# Altium footprint library UVICHyrbidLibrary (1).PcbLib: 116 footprints (part 8 of 8)
Each footprint in its own frame and in the unit in brackets; x right, y up, seen from the top. Pads: shape width x height; smd on the part's side, far side on the other; paste and mask are expansions set on the pad; w line width, h text height; cw(c..) or ccw(c..) is an arc to the next point about the centre after c.
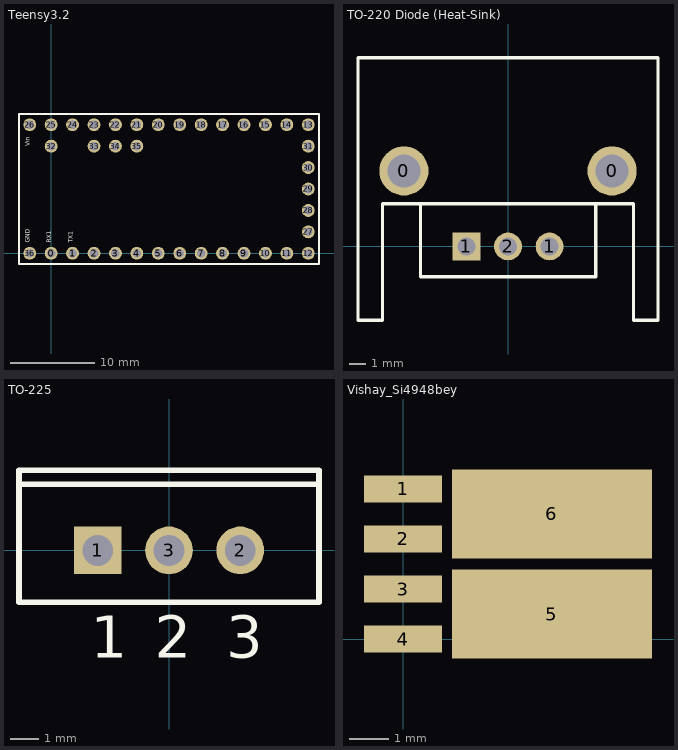
[diagram p7: the footprints below, top view; thin cyan lines are the x and y axes]

## Teensy3.2 [mil]
pads (37):
  round 60 hole 40: 0(0,0) 1(100,0) 2(200,0) 3(300,0) 4(400,0) 5(500,0) 6(600,0) 7(700,0) 8(800,0) 9(900,0) 10(1000,0) 11(1100,0) 12(1200,0) 13(1200,600) 14(1100,600) 15(1000,600) 16(900,600) 17(800,600) 18(700,600) 19(600,600) 20(500,600) 21(400,600) 22(300,600) 23(200,600) 24(100,600) 25(0,600) 26(-100,600) 27(1200,100) 28(1200,200) 29(1200,300) 30(1200,400) 31(1200,500) 32(0,500) 33(200,500) 34(300,500) 35(400,500) 36(-100,0)
Top Overlay:
  lines w10: -150,-50 -150,650 1250,650 1250,-50 -150,-50
  text "GND" at -100,50 h20
  text "RX1" at 0,50 h20
  text "TX1" at 100,50 h20
  text "Vin" at -100,500 h20

## TO-220 Diode (Heat-Sink) [mm]
pads (5):
  round 3 hole 2 unplated: 0(-6.35,4.6)
  round 3 hole 2: 0(6.35,4.6)
  rect 1.7x1.7 hole 1.1: 1(-2.54,0)
  round 1.7 hole 1.1: 1(2.54,0) 2(0,0)
Top Overlay:
  lines w0.2: -5.334,2.5 -5.334,-1.85 5.35,-1.85 5.35,2.5 ; -9.15,-4.5 -7.65,-4.5 -7.65,2.6 7.65,2.6 7.65,-4.5 9.15,-4.5 9.15,11.5 -9.15,11.5 -9.15,-4.5

## TO-225 [mm]
pads (3):
  rect 1.7x1.7 hole 1.1: 1(-2.54,0)
  round 1.7 hole 1.1: 2(2.54,0) 3(0,0)
Top Overlay:
  lines w0.2: -5.35,2.35 5.35,2.35 ; -5.35,-1.85 -5.35,2.85 5.35,2.85 5.35,-1.85 -5.35,-1.85
  text "3" at 2.04,-3.825 h1.5
  text "2" at -0.5,-3.825 h1.5
  text "1" at -2.79,-3.825 h1.5

## Vishay_Si4948bey [mm] "Dual Package P-Channel MOSEFET"
pads (6):
  rect 1.98x0.69 smd: 1(0,3.81) 2(0,2.54) 3(0,1.27) 4(0,0)
  rect 5.07x2.25 smd: 5(3.775,0.635) 6(3.775,3.175)